# EAGLE library part MAX4232* (library _MAX4230_MAX4231_MAX4232_MAX4234_MAX14572)
MAX4232 Single-Supply, Rail-to-Rail I/O, High-Output-Drive Dual OpAmps Maxim Integrated Products (Source: www.maxim-ic.com) MAX4232AKA+.. 8-Lead SOT23 (.65mm grid), RoHS-Compliant Author: Dipl.-Ing. FH Rainer Bayer HHN Hochschule Heilbronn, rainer.bayer@hs-heilbronn.de Ingenieurbüro ing-rb, mail@ing-rb.de
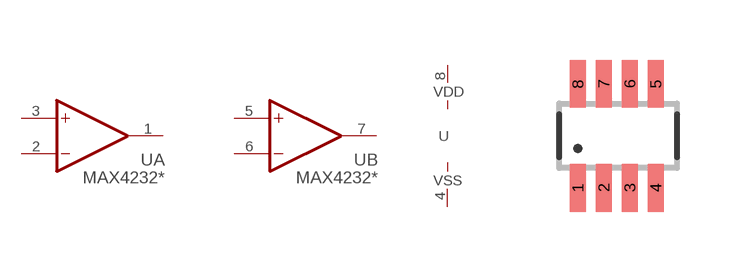
[diagram p1: symbol with the pads of SOT23-8; footprint SOT23-8]

Designator prefix U; gates A=OP B=OP G$3=PWR

## MAX4232AKA+  [SOT23-8]
1  A:OUT  out
2  A:-IN  in
3  A:+IN  in
4  G$3:VSS  pwr
5  B:+IN  in
6  B:-IN  in
7  B:OUT  out
8  G$3:VDD  pwr

## Footprint SOT23-8 (pad centres in mm)
8-Lead SOT23-8 (0.65 mm grid) Small Outline Transistor source: Maxim (www.maxim-ic.com)
smd 0.4 x 1.2: 1 -0.975,-1.3; 2 -0.325,-1.3; 3 0.325,-1.3; 4 0.975,-1.3; 5 0.975,1.3; 6 0.325,1.3; 7 -0.325,1.3; 8 -0.975,1.3